# Altium footprint library lib-IC_RF_pcb.PcbLib: 6 footprints
Each footprint in its own frame and in the unit in brackets; x right, y up, seen from the top. Pads: shape width x height; smd on the part's side, far side on the other; paste and mask are expansions set on the pad; w line width, h text height; cw(c..) or ccw(c..) is an arc to the next point about the centre after c.
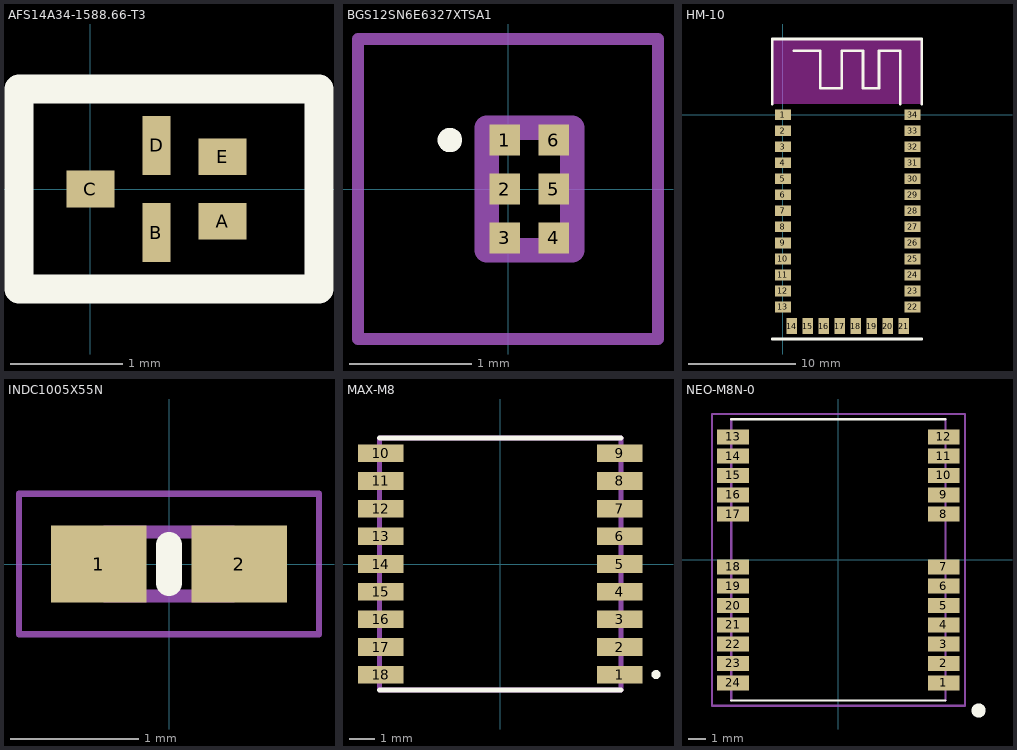
[diagram p0: the footprints below, top view; thin cyan lines are the x and y axes]

## AFS14A34-1588.66-T3 [mm] "ABRACON SAW FILTER"
height 0.762
pads (5):
  rect 0.425x0.325 smd: A(1.175,-0.288) C(0,0) E(1.175,0.288)
  rect 0.25x0.525 smd: B(0.587,-0.387) D(0.587,0.387)
Top Overlay:
  lines w0.254: -0.635,-0.889 -0.635,0.889 2.032,0.889 2.032,-0.889 -0.635,-0.889
3D body: height 0.7, standoff 0, extent -0.9,-0.625 -0.9,-0.625
3D body: height 0.25, standoff 0, extent -0.5,-0.75 1.9,0.75

## BGS12SN6E6327XTSA1 [mm]
pads (6):
  rect 0.25x0.25 smd: 1(-0.025,0.4) 2(-0.025,0) 3(-0.025,-0.4) 4(0.375,-0.4) 5(0.375,0) 6(0.375,0.4)
Top Overlay:
  lines w0.1: -0.525,0.4 ccw(c-0.475,0.4) -0.425,0.4 ccw(c-0.475,0.4) -0.525,0.4
Mechanical 15:
  lines w0.2: -0.175,-0.5 0.525,-0.5 0.525,0.5 -0.175,0.5 -0.175,-0.5
Mechanical 20:
  lines w0.1: -1.225,-1.225 1.225,-1.225 1.225,1.225 -1.225,1.225 -1.225,-1.225
3D body: height 0.7, standoff 0, extent -0.25,-0.625 0.6,0.625

## HM-10 [mm] "HM-10"
pads (34):
  rect 1.5x1 smd: 1(0,0) 2(0,-1.5) 3(0,-3) 4(0,-4.5) 5(0,-6) 6(0,-7.5) 7(0,-9) 8(0,-10.5) 9(0,-12) 10(0,-13.5) 11(0,-15) 12(0,-16.5) 13(0,-18) 22(12.14,-18) 23(12.14,-16.5) 24(12.14,-15) 25(12.14,-13.5) 26(12.14,-12) 27(12.14,-10.5) 28(12.14,-9) 29(12.14,-7.5) 30(12.14,-6) 31(12.14,-4.5) 32(12.14,-3) 33(12.14,-1.5) 34(12.14,0)
  rect 1x1.5 smd: 14(0.82,-19.79) 15(2.32,-19.79) 16(3.82,-19.79) 17(5.32,-19.79) 18(6.82,-19.79) 19(8.32,-19.79) 20(9.82,-19.79) 21(11.32,-19.79)
Top Layer keep-out:
  rectangle: -1,1.016 13,7
Top Overlay:
  lines w0.254: -1,-21 13,-21 ; -1,1 -1,7.1 13,7.1 13,1 ; 1,6 3.5,6 3.5,2.5 5.5,2.5 5.5,6 7.5,6 7.5,2.5 9,2.5 9,6 11,6 11,1
3D body: height 2.2, standoff 0, extent 0,-20 12,6.5

## INDC1005X55N [mm]
pads (2):
  rect 0.75x0.6 smd: 1(-0.55,0) 2(0.55,0)
Top Overlay:
  lines w0.2: 0,-0.15 0,0.15
Mechanical 15:
  lines w0.1: -0.5,-0.25 0.5,-0.25 0.5,0.25 -0.5,0.25 -0.5,-0.25
Mechanical 20:
  lines w0.05: -1.175,-0.55 1.175,-0.55 1.175,0.55 -1.175,0.55 -1.175,-0.55

## MAX-M8 [mm]
pads (18):
  rect 1.8x0.7 smd: 1(4.75,-4.4) 2(4.75,-3.3) 3(4.75,-2.2) 4(4.75,-1.1) 5(4.75,0) 6(4.75,1.1) 7(4.75,2.2) 8(4.75,3.3) 9(4.75,4.4) 10(-4.75,4.4) 11(-4.75,3.3) 12(-4.75,2.2) 13(-4.75,1.1) 14(-4.75,0) 15(-4.75,-1.1) 16(-4.75,-2.2) 17(-4.75,-3.3) 18(-4.75,-4.4)
Top Overlay:
  circle w0.2: c6.194,-4.394 r0.078
  lines w0.2: -4.8,-5 4.8,-5 ; -4.8,5 4.8,5
Mechanical 15:
  lines w0.2: -4.8,-5 -4.8,5 4.8,5 4.8,-5 -4.8,-5

## NEO-M8N-0 [mm]
height 2
pads (24):
  rect 1.8x0.85 smd: 1(6,-7) 2(6,-5.9) 3(6,-4.8) 4(6,-3.7) 5(6,-2.6) 6(6,-1.5) 7(6,-0.4) 8(6,2.6) 9(6,3.7) 10(6,4.8) 11(6,5.9) 12(6,7) 13(-6,7) 14(-6,5.9) 15(-6,4.8) 16(-6,3.7) 17(-6,2.6) 18(-6,-0.4) 19(-6,-1.5) 20(-6,-2.6) 21(-6,-3.7) 22(-6,-4.8) 23(-6,-5.9) 24(-6,-7)
Top Overlay:
  circle w0.406: c7.975,-8.575 r0.2
  lines w0.127: -6.1,-8 6.1,-8 ; -6.1,8 6.1,8
Mechanical 13:
  lines w0.127: -6.1,-8 -6.1,8 -6.1,-8 ; 6.1,-8 6.1,8 6.1,-8
Mechanical 15:
  lines w0.127: -7.2,-8.3 7.2,-8.3 7.2,8.3 -7.2,8.3 -7.2,-8.3
3D body: height 0.51, standoff 0, extent -6.096,-7.62 6.096,7.62
3D body: height 0.38, standoff 0, extent -6.096,8.128 -6.096,8.128